# Altium integrated library Microchip SST Flash.IntLib: 282 symbols (part 34 of 37)
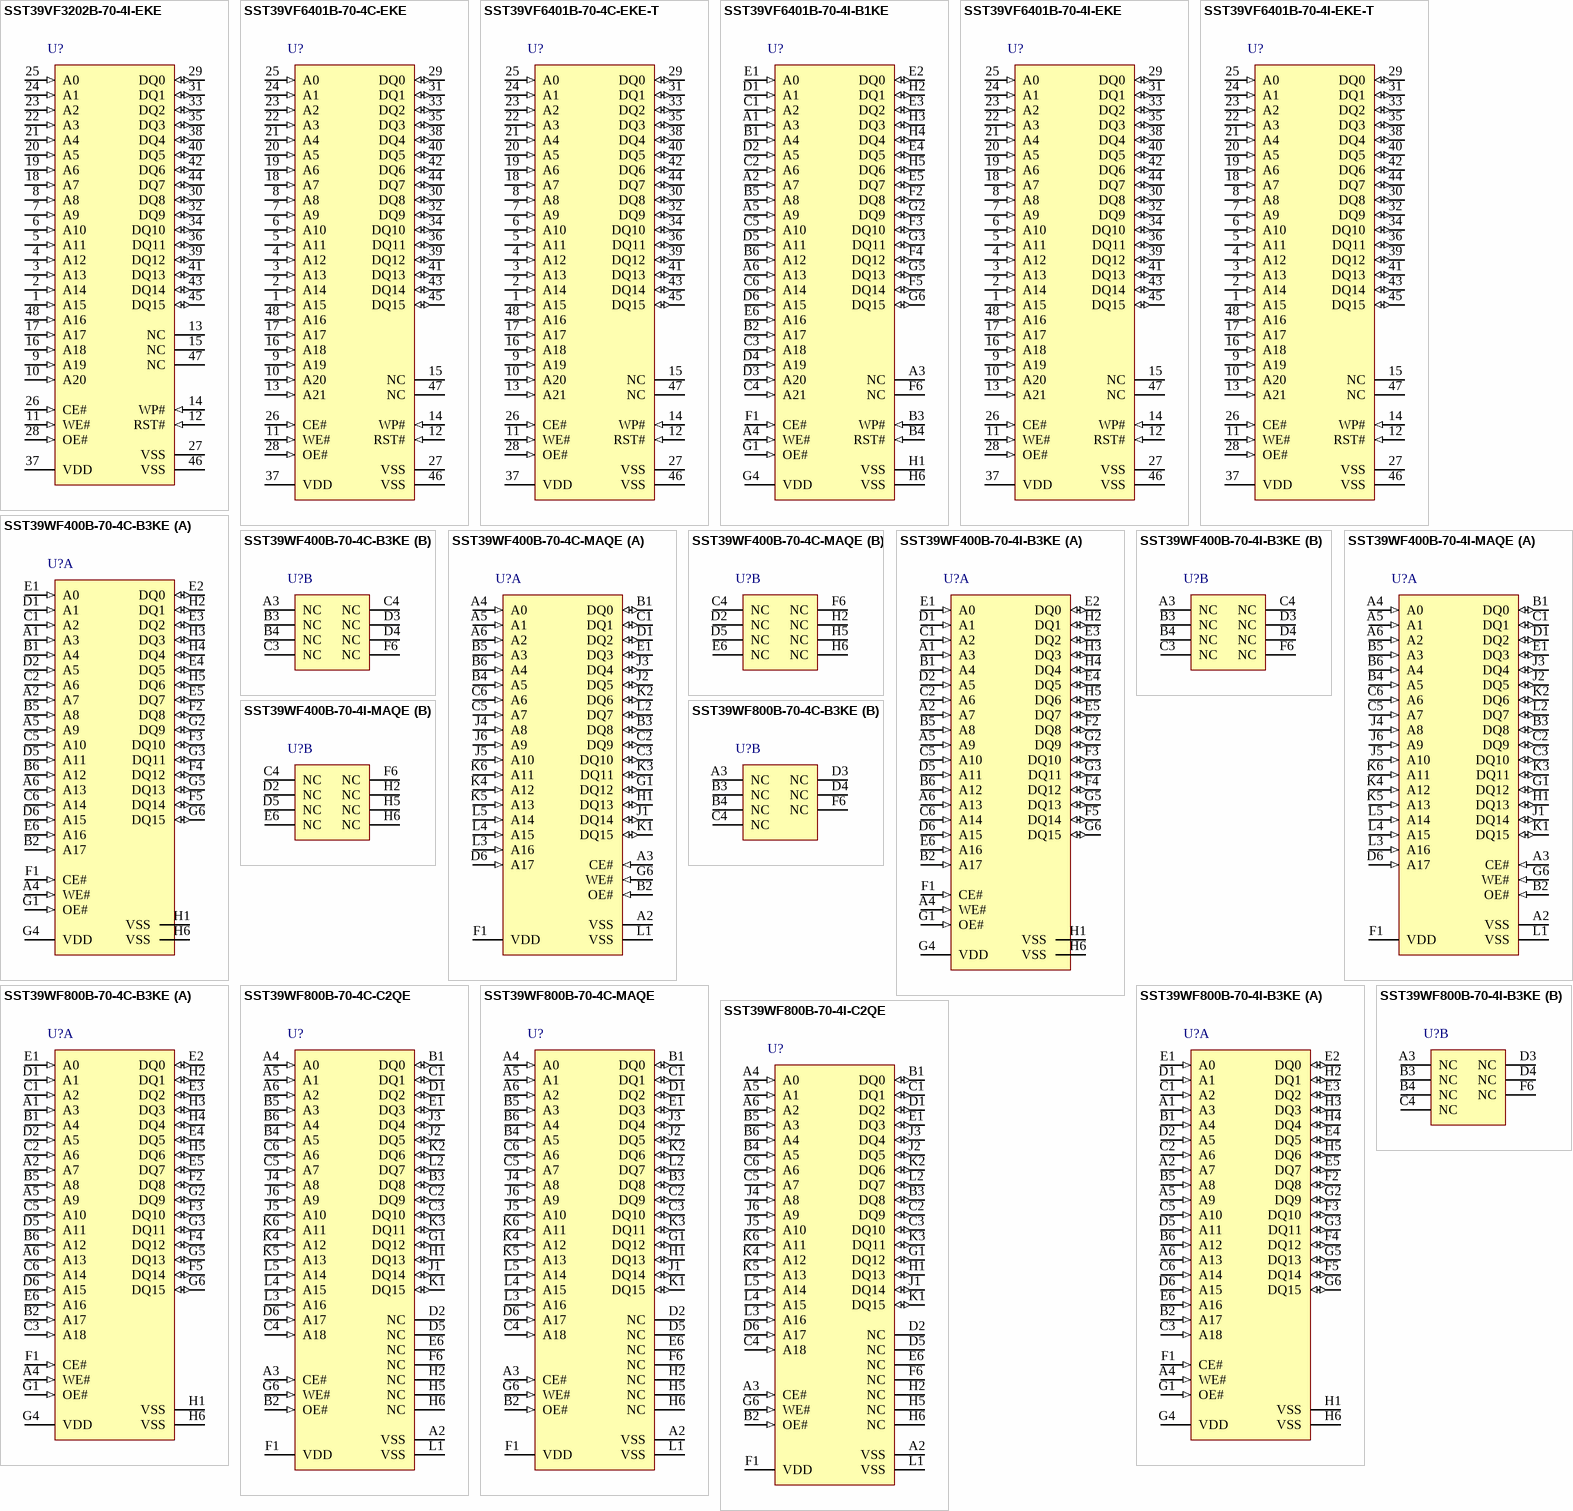
[diagram p47: symbols SST39VF3202B-70-4I-EKE to SST39WF800B-70-4I-C2QE]

## SST39WF800B-70-4C-MAQE
designator U?
8 Mbit Multi-Purpose Flash, 1.65 to 1.95 V, 0 to 70 degC, 48-pin WFBGA (MAQ48), Tray; Manufacturer: Microchip; PartNumber: SST39WF800B-70-4C-MAQE; DatasheetVersion: Rev. A; PackageVersion: Rev. A; PackageReference: WFBGA-MAQ48; PackageDescription: 48-Ball Very Very Thin-profile, Fine-pitch Ball Grid Array, 6 x 4 mm Body, 0.5 mm Pitch; Supplier 1: Digi-Key; Supplier Part Number 1: SST39WF800B-70-4C-MAQE-ND; Supplier 2: Mouser; Supplier Part Number 2: 804-39WF800B7CMAQE; Mounting Technology: Surface Mount; Code_JEDEC: MO-207; ComponentLink1Description: Manufacturer URL; ComponentLink1URL: http://www.microchip.com; ComponentLink2Description: Datasheet; ComponentLink2URL: http://ww1.microchip.com/downloads/en/DeviceDoc/25031A.pdf; ComponentLink3Description: Package Specification; ComponentLink3URL: http://ww1.microchip.com/downloads/en/DeviceDoc/25041A.pdf; ComponentLink4Description: Product URL; ComponentLink4URL: http://www.microchip.com/SST39WF800B
footprint MCHP-WFBGA-MAQ48 (BGA, 48-Balls, Body 6x4mm, Pitch 0.5mm)
pins: A2 VSS (power) "Ground", A3 CE# (in) "To activate the device when CE# is low.", A4 A0 (in) "To provide memory addresses.During Sector-Erase AMS-A11 address lines will select the sector. During Block-Erase AMS-A15 address lines will select the block.", A5 A1 (in) "To provide memory addresses.During Sector-Erase AMS-A11 address lines will select the sector. During Block-Erase AMS-A15 address lines will select the block.", A6 A2 (in) "To provide memory addresses.During Sector-Erase AMS-A11 address lines will select the sector. During Block-Erase AMS-A15 address lines will select the block.", B1 DQ0 (io) "To output data during Read cycles and receive input data during Write cycles. Data is internally latched during a Write cycle. The outputs are in tri-state when OE# or CE# is high.", B2 OE# (in) "To gate the data output buffers.", B3 DQ8 (io) "To output data during Read cycles and receive input data during Write cycles. Data is internally latched during a Write cycle. The outputs are in tri-state when OE# or CE# is high.", B4 A5 (in) "To provide memory addresses.During Sector-Erase AMS-A11 address lines will select the sector. During Block-Erase AMS-A15 address lines will select the block.", B5 A3 (in) "To provide memory addresses.During Sector-Erase AMS-A11 address lines will select the sector. During Block-Erase AMS-A15 address lines will select the block.", B6 A4 (in) "To provide memory addresses.During Sector-Erase AMS-A11 address lines will select the sector. During Block-Erase AMS-A15 address lines will select the block.", C1 DQ1 (io) "To output data during Read cycles and receive input data during Write cycles. Data is internally latched during a Write cycle. The outputs are in tri-state when OE# or CE# is high.", C2 DQ9 (io) "To output data during Read cycles and receive input data during Write cycles. Data is internally latched during a Write cycle. The outputs are in tri-state when OE# or CE# is high.", C3 DQ10 (io) "To output data during Read cycles and receive input data during Write cycles. Data is internally latched during a Write cycle. The outputs are in tri-state when OE# or CE# is high.", C4 A18 (in) "To provide memory addresses.During Sector-Erase AMS-A11 address lines will select the sector. During Block-Erase AMS-A15 address lines will select the block.", C5 A7 (in) "To provide memory addresses.During Sector-Erase AMS-A11 address lines will select the sector. During Block-Erase AMS-A15 address lines will select the block.", C6 A6 (in) "To provide memory addresses.During Sector-Erase AMS-A11 address lines will select the sector. During Block-Erase AMS-A15 address lines will select the block.", D1 DQ2 (io) "To output data during Read cycles and receive input data during Write cycles. Data is internally latched during a Write cycle. The outputs are in tri-state when OE# or CE# is high.", D2 NC "Unconnected pins.", D5 NC "Unconnected pins.", D6 A17 (in) "To provide memory addresses.During Sector-Erase AMS-A11 address lines will select the sector. During Block-Erase AMS-A15 address lines will select the block.", E1 DQ3 (io) "To output data during Read cycles and receive input data during Write cycles. Data is internally latched during a Write cycle. The outputs are in tri-state when OE# or CE# is high.", E6 NC "Unconnected pins.", F1 VDD (power) "To provide power supply voltage: 1.65-1.95 V for SST39WF800B", F6 NC "Unconnected pins.", G1 DQ12 (io) "To output data during Read cycles and receive input data during Write cycles. Data is internally latched during a Write cycle. The outputs are in tri-state when OE# or CE# is high.", G6 WE# (in) "To control the Write operations.", H1 DQ13 (io) "To output data during Read cycles and receive input data during Write cycles. Data is internally latched during a Write cycle. The outputs are in tri-state when OE# or CE# is high.", H2 NC "Unconnected pins.", H5 NC "Unconnected pins.", H6 NC "Unconnected pins.", J1 DQ14 (io) "To output data during Read cycles and receive input data during Write cycles. Data is internally latched during a Write cycle. The outputs are in tri-state when OE# or CE# is high.", J2 DQ5 (io) "To output data during Read cycles and receive input data during Write cycles. Data is internally latched during a Write cycle. The outputs are in tri-state when OE# or CE# is high.", J3 DQ4 (io) "To output data during Read cycles and receive input data during Write cycles. Data is internally latched during a Write cycle. The outputs are in tri-state when OE# or CE# is high.", J4 A8 (in) "To provide memory addresses.During Sector-Erase AMS-A11 address lines will select the sector. During Block-Erase AMS-A15 address lines will select the block.", J5 A10 (in) "To provide memory addresses.During Sector-Erase AMS-A11 address lines will select the sector. During Block-Erase AMS-A15 address lines will select the block.", J6 A9 (in) "To provide memory addresses.During Sector-Erase AMS-A11 address lines will select the sector. During Block-Erase AMS-A15 address lines will select the block.", K1 DQ15 (io) "To output data during Read cycles and receive input data during Write cycles. Data is internally latched during a Write cycle. The outputs are in tri-state when OE# or CE# is high.", K2 DQ6 (io) "To output data during Read cycles and receive input data during Write cycles. Data is internally latched during a Write cycle. The outputs are in tri-state when OE# or CE# is high.", K3 DQ11 (io) "To output data during Read cycles and receive input data during Write cycles. Data is internally latched during a Write cycle. The outputs are in tri-state when OE# or CE# is high.", K4 A12 (in) "To provide memory addresses.During Sector-Erase AMS-A11 address lines will select the sector. During Block-Erase AMS-A15 address lines will select the block.", K5 A13 (in) "To provide memory addresses.During Sector-Erase AMS-A11 address lines will select the sector. During Block-Erase AMS-A15 address lines will select the block.", K6 A11 (in) "To provide memory addresses.During Sector-Erase AMS-A11 address lines will select the sector. During Block-Erase AMS-A15 address lines will select the block.", L1 VSS (power), L2 DQ7 (io) "To output data during Read cycles and receive input data during Write cycles. Data is internally latched during a Write cycle. The outputs are in tri-state when OE# or CE# is high.", L3 A16 (in) "To provide memory addresses.During Sector-Erase AMS-A11 address lines will select the sector. During Block-Erase AMS-A15 address lines will select the block.", L4 A15 (in) "To provide memory addresses.During Sector-Erase AMS-A11 address lines will select the sector. During Block-Erase AMS-A15 address lines will select the block.", L5 A14 (in) "To provide memory addresses.During Sector-Erase AMS-A11 address lines will select the sector. During Block-Erase AMS-A15 address lines will select the block."

## SST39WF800B-70-4I-B3KE
designator U?
8 Mbit Multi-Purpose Flash, 1.65 to 1.95 V, -40 to 85 degC, 48-pin TFBGA (B3K48), Tray; Manufacturer: Microchip; PartNumber: SST39WF800B-70-4I-B3KE; DatasheetVersion: Rev. A; PackageVersion: Rev. A; PackageReference: TFBGA-B3K48; PackageDescription: 48-Ball Thin-Profile, Fine-Pitch Ball Grid Array, 8 x 6 mm Body, 0.8 mm Pitch; Supplier 1: Digi-Key; Supplier Part Number 1: SST39WF800B-70-4I-B3KE-ND; Supplier 2: Mouser; Supplier Part Number 2: 804-39WF800B7IB3KE; Mounting Technology: Surface Mount; Code_JEDEC: MO-210; ComponentLink1Description: Manufacturer URL; ComponentLink1URL: http://www.microchip.com; ComponentLink2Description: Datasheet; ComponentLink2URL: http://ww1.microchip.com/downloads/en/DeviceDoc/25031A.pdf; ComponentLink3Description: Package Specification; ComponentLink3URL: http://www.microchip.com/stellent/groups/techpub_sg/documents/packagingspec/en012702.pdf; ComponentLink4Description: Product URL; ComponentLink4URL: http://www.microchip.com/SST39WF800B
footprint MCHP-TFBGA-B3K48 (BGA, 48-Balls, Body 8x6mm, Pitch 0.8mm)
part A pins: A1 A3 (in) "To provide memory addresses. During Sector-Erase AMS-A11 address lines will select the sector. During Block-Erase AMS-A15 address lines will select the block.", A2 A7 (in) "To provide memory addresses. During Sector-Erase AMS-A11 address lines will select the sector. During Block-Erase AMS-A15 address lines will select the block.", A4 WE# (in) "To control the Write operations.", A5 A9 (in) "To provide memory addresses. During Sector-Erase AMS-A11 address lines will select the sector. During Block-Erase AMS-A15 address lines will select the block.", A6 A13 (in) "To provide memory addresses. During Sector-Erase AMS-A11 address lines will select the sector. During Block-Erase AMS-A15 address lines will select the block.", B1 A4 (in) "To provide memory addresses. During Sector-Erase AMS-A11 address lines will select the sector. During Block-Erase AMS-A15 address lines will select the block.", B2 A17 (in) "To provide memory addresses. During Sector-Erase AMS-A11 address lines will select the sector. During Block-Erase AMS-A15 address lines will select the block.", B5 A8 (in) "To provide memory addresses. During Sector-Erase AMS-A11 address lines will select the sector. During Block-Erase AMS-A15 address lines will select the block.", B6 A12 (in) "To provide memory addresses. During Sector-Erase AMS-A11 address lines will select the sector. During Block-Erase AMS-A15 address lines will select the block.", C1 A2 (in) "To provide memory addresses. During Sector-Erase AMS-A11 address lines will select the sector. During Block-Erase AMS-A15 address lines will select the block.", C2 A6 (in) "To provide memory addresses. During Sector-Erase AMS-A11 address lines will select the sector. During Block-Erase AMS-A15 address lines will select the block.", C3 A18 (in) "To provide memory addresses. During Sector-Erase AMS-A11 address lines will select the sector. During Block-Erase AMS-A15 address lines will select the block.", C5 A10 (in) "To provide memory addresses. During Sector-Erase AMS-A11 address lines will select the sector. During Block-Erase AMS-A15 address lines will select the block.", C6 A14 (in) "To provide memory addresses. During Sector-Erase AMS-A11 address lines will select the sector. During Block-Erase AMS-A15 address lines will select the block.", D1 A1 (in) "To provide memory addresses. During Sector-Erase AMS-A11 address lines will select the sector. During Block-Erase AMS-A15 address lines will select the block.", D2 A5 (in) "To provide memory addresses. During Sector-Erase AMS-A11 address lines will select the sector. During Block-Erase AMS-A15 address lines will select the block.", D5 A11 (in) "To provide memory addresses. During Sector-Erase AMS-A11 address lines will select the sector. During Block-Erase AMS-A15 address lines will select the block.", D6 A15 (in) "To provide memory addresses. During Sector-Erase AMS-A11 address lines will select the sector. During Block-Erase AMS-A15 address lines will select the block.", E1 A0 (in) "To provide memory addresses. During Sector-Erase AMS-A11 address lines will select the sector. During Block-Erase AMS-A15 address lines will select the block.", E2 DQ0 (io) "To output data during Read cycles and receive input data during Write cycles. Data is internally latched during a Write cycle. The outputs are in tri-state when OE# or CE# is high.", E3 DQ2 (io) "To output data during Read cycles and receive input data during Write cycles. Data is internally latched during a Write cycle. The outputs are in tri-state when OE# or CE# is high.", E4 DQ5 (io) "To output data during Read cycles and receive input data during Write cycles. Data is internally latched during a Write cycle. The outputs are in tri-state when OE# or CE# is high.", E5 DQ7 (io) "To output data during Read cycles and receive input data during Write cycles. Data is internally latched during a Write cycle. The outputs are in tri-state when OE# or CE# is high.", E6 A16 (in) "To provide memory addresses. During Sector-Erase AMS-A11 address lines will select the sector. During Block-Erase AMS-A15 address lines will select the block.", F1 CE# (in) "To activate the device when CE# is low.", F2 DQ8 (io) "To output data during Read cycles and receive input data during Write cycles. Data is internally latched during a Write cycle. The outputs are in tri-state when OE# or CE# is high.", F3 DQ10 (io) "To output data during Read cycles and receive input data during Write cycles. Data is internally latched during a Write cycle. The outputs are in tri-state when OE# or CE# is high.", F4 DQ12 (io) "To output data during Read cycles and receive input data during Write cycles. Data is internally latched during a Write cycle. The outputs are in tri-state when OE# or CE# is high.", F5 DQ14 (io) "To output data during Read cycles and receive input data during Write cycles. Data is internally latched during a Write cycle. The outputs are in tri-state when OE# or CE# is high.", G1 OE# (in) "To gate the data output buffers.", G2 DQ9 (io) "To output data during Read cycles and receive input data during Write cycles. Data is internally latched during a Write cycle. The outputs are in tri-state when OE# or CE# is high.", G3 DQ11 (io) "To output data during Read cycles and receive input data during Write cycles. Data is internally latched during a Write cycle. The outputs are in tri-state when OE# or CE# is high.", G4 VDD (power) "To provide power supply voltage: 2.7-3.6V for SST39VF200A/400A/800A,3.0-3.6V for SST39LF200A/400A/800A,1.65-1.95 V for SST39WF800B", G5 DQ13 (io) "To output data during Read cycles and receive input data during Write cycles. Data is internally latched during a Write cycle. The outputs are in tri-state when OE# or CE# is high.", G6 DQ15 (io) "To output data during Read cycles and receive input data during Write cycles. Data is internally latched during a Write cycle. The outputs are in tri-state when OE# or CE# is high.", H1 VSS (power) "Ground", H2 DQ1 (io) "To output data during Read cycles and receive input data during Write cycles. Data is internally latched during a Write cycle. The outputs are in tri-state when OE# or CE# is high.", H3 DQ3 (io) "To output data during Read cycles and receive input data during Write cycles. Data is internally latched during a Write cycle. The outputs are in tri-state when OE# or CE# is high.", H4 DQ4 (io) "To output data during Read cycles and receive input data during Write cycles. Data is internally latched during a Write cycle. The outputs are in tri-state when OE# or CE# is high.", H5 DQ6 (io) "To output data during Read cycles and receive input data during Write cycles. Data is internally latched during a Write cycle. The outputs are in tri-state when OE# or CE# is high.", H6 VSS (power) "Ground"
part B pins: A3 NC "Unconnected pins.", B3 NC "Unconnected pins.", B4 NC "Unconnected pins.", C4 NC "Unconnected pins.", D3 NC "Unconnected pins.", D4 NC "Unconnected pins.", F6 NC "Unconnected pins."

## SST39WF800B-70-4I-C2QE
designator U?
8 Mbit Multi-Purpose Flash, 1.65 to 1.95 V, -40 to 85 degC, 48-pin XFLGA (C2Q48), Tray; Manufacturer: Microchip; PartNumber: SST39WF800B-70-4I-C2QE; DatasheetVersion: Rev. A; PackageVersion: Rev. A; PackageReference: XFLGA-C2Q48; PackageDescription: 48-Ball Extremely Thin-Profile, Fine-Pitch Land Grid Array, 6 x 5 mm Body, 0.5 mm Pitch; Supplier 1: Digi-Key; Supplier Part Number 1: SST39WF800B-70-4I-C2QE-ND; Supplier 2: Newark; Supplier Part Number 2: 92R4944; Supplier 3: Mouser; Supplier Part Number 3: 579-39WF800B7IC2QE; Mounting Technology: Surface Mount; Code_JEDEC: MO-222; ComponentLink1Description: Manufacturer URL; ComponentLink1URL: http://www.microchip.com; ComponentLink2Description: Datasheet; ComponentLink2URL: http://ww1.microchip.com/downloads/en/DeviceDoc/25031A.pdf; ComponentLink3Description: Package Specification; ComponentLink3URL: http://ww1.microchip.com/downloads/en/DeviceDoc/25031A.pdf; ComponentLink4Description: Product URL; ComponentLink4URL: http://www.microchip.com/SST39WF800B
footprint MCHP-XFLGA-C2Q48 (BGA, 48-Balls, Body 6x5mm, Pitch 0.5mm)
pins: A2 VSS (power) "Ground", A3 CE# (in) "To activate the device when CE# is low.", A4 A0 (in) "To provide memory addresses.During Sector-Erase AMS-A11 address lines will select the sector. During Block-Erase AMS-A15 address lines will select the block.", A5 A1 (in) "To provide memory addresses.During Sector-Erase AMS-A11 address lines will select the sector. During Block-Erase AMS-A15 address lines will select the block.", A6 A2 (in) "To provide memory addresses.During Sector-Erase AMS-A11 address lines will select the sector. During Block-Erase AMS-A15 address lines will select the block.", B1 DQ0 (io) "To output data during Read cycles and receive input data during Write cycles. Data is internally latched during a Write cycle. The outputs are in tri-state when OE# or CE# is high.", B2 OE# (in) "To gate the data output buffers.", B3 DQ8 (io) "To output data during Read cycles and receive input data during Write cycles. Data is internally latched during a Write cycle. The outputs are in tri-state when OE# or CE# is high.", B4 A5 (in) "To provide memory addresses.During Sector-Erase AMS-A11 address lines will select the sector. During Block-Erase AMS-A15 address lines will select the block.", B5 A3 (in) "To provide memory addresses.During Sector-Erase AMS-A11 address lines will select the sector. During Block-Erase AMS-A15 address lines will select the block.", B6 A4 (in) "To provide memory addresses.During Sector-Erase AMS-A11 address lines will select the sector. During Block-Erase AMS-A15 address lines will select the block.", C1 DQ1 (io) "To output data during Read cycles and receive input data during Write cycles. Data is internally latched during a Write cycle. The outputs are in tri-state when OE# or CE# is high.", C2 DQ9 (io) "To output data during Read cycles and receive input data during Write cycles. Data is internally latched during a Write cycle. The outputs are in tri-state when OE# or CE# is high.", C3 DQ10 (io) "To output data during Read cycles and receive input data during Write cycles. Data is internally latched during a Write cycle. The outputs are in tri-state when OE# or CE# is high.", C4 A18 (in) "To provide memory addresses.During Sector-Erase AMS-A11 address lines will select the sector. During Block-Erase AMS-A15 address lines will select the block.", C5 A7 (in) "To provide memory addresses.During Sector-Erase AMS-A11 address lines will select the sector. During Block-Erase AMS-A15 address lines will select the block.", C6 A6 (in) "To provide memory addresses.During Sector-Erase AMS-A11 address lines will select the sector. During Block-Erase AMS-A15 address lines will select the block.", D1 DQ2 (io) "To output data during Read cycles and receive input data during Write cycles. Data is internally latched during a Write cycle. The outputs are in tri-state when OE# or CE# is high.", D2 NC "Unconnected pins.", D5 NC "Unconnected pins.", D6 A17 (in) "To provide memory addresses.During Sector-Erase AMS-A11 address lines will select the sector. During Block-Erase AMS-A15 address lines will select the block.", E1 DQ3 (io) "To output data during Read cycles and receive input data during Write cycles. Data is internally latched during a Write cycle. The outputs are in tri-state when OE# or CE# is high.", E6 NC "Unconnected pins.", F1 VDD (power) "To provide power supply voltage: 1.65-1.95 V for SST39WF800B", F6 NC "Unconnected pins.", G1 DQ12 (io) "To output data during Read cycles and receive input data during Write cycles. Data is internally latched during a Write cycle. The outputs are in tri-state when OE# or CE# is high.", G6 WE# (in) "To control the Write operations.", H1 DQ13 (io) "To output data during Read cycles and receive input data during Write cycles. Data is internally latched during a Write cycle. The outputs are in tri-state when OE# or CE# is high.", H2 NC "Unconnected pins.", H5 NC "Unconnected pins.", H6 NC "Unconnected pins.", J1 DQ14 (io) "To output data during Read cycles and receive input data during Write cycles. Data is internally latched during a Write cycle. The outputs are in tri-state when OE# or CE# is high.", J2 DQ5 (io) "To output data during Read cycles and receive input data during Write cycles. Data is internally latched during a Write cycle. The outputs are in tri-state when OE# or CE# is high.", J3 DQ4 (io) "To output data during Read cycles and receive input data during Write cycles. Data is internally latched during a Write cycle. The outputs are in tri-state when OE# or CE# is high.", J4 A8 (in) "To provide memory addresses.During Sector-Erase AMS-A11 address lines will select the sector. During Block-Erase AMS-A15 address lines will select the block.", J5 A10 (in) "To provide memory addresses.During Sector-Erase AMS-A11 address lines will select the sector. During Block-Erase AMS-A15 address lines will select the block.", J6 A9 (in) "To provide memory addresses.During Sector-Erase AMS-A11 address lines will select the sector. During Block-Erase AMS-A15 address lines will select the block.", K1 DQ15 (io) "To output data during Read cycles and receive input data during Write cycles. Data is internally latched during a Write cycle. The outputs are in tri-state when OE# or CE# is high.", K2 DQ6 (io) "To output data during Read cycles and receive input data during Write cycles. Data is internally latched during a Write cycle. The outputs are in tri-state when OE# or CE# is high.", K3 DQ11 (io) "To output data during Read cycles and receive input data during Write cycles. Data is internally latched during a Write cycle. The outputs are in tri-state when OE# or CE# is high.", K4 A12 (in) "To provide memory addresses.During Sector-Erase AMS-A11 address lines will select the sector. During Block-Erase AMS-A15 address lines will select the block.", K5 A13 (in) "To provide memory addresses.During Sector-Erase AMS-A11 address lines will select the sector. During Block-Erase AMS-A15 address lines will select the block.", K6 A11 (in) "To provide memory addresses.During Sector-Erase AMS-A11 address lines will select the sector. During Block-Erase AMS-A15 address lines will select the block.", L1 VSS (power), L2 DQ7 (io) "To output data during Read cycles and receive input data during Write cycles. Data is internally latched during a Write cycle. The outputs are in tri-state when OE# or CE# is high.", L3 A16 (in) "To provide memory addresses.During Sector-Erase AMS-A11 address lines will select the sector. During Block-Erase AMS-A15 address lines will select the block.", L4 A15 (in) "To provide memory addresses.During Sector-Erase AMS-A11 address lines will select the sector. During Block-Erase AMS-A15 address lines will select the block.", L5 A14 (in) "To provide memory addresses.During Sector-Erase AMS-A11 address lines will select the sector. During Block-Erase AMS-A15 address lines will select the block."

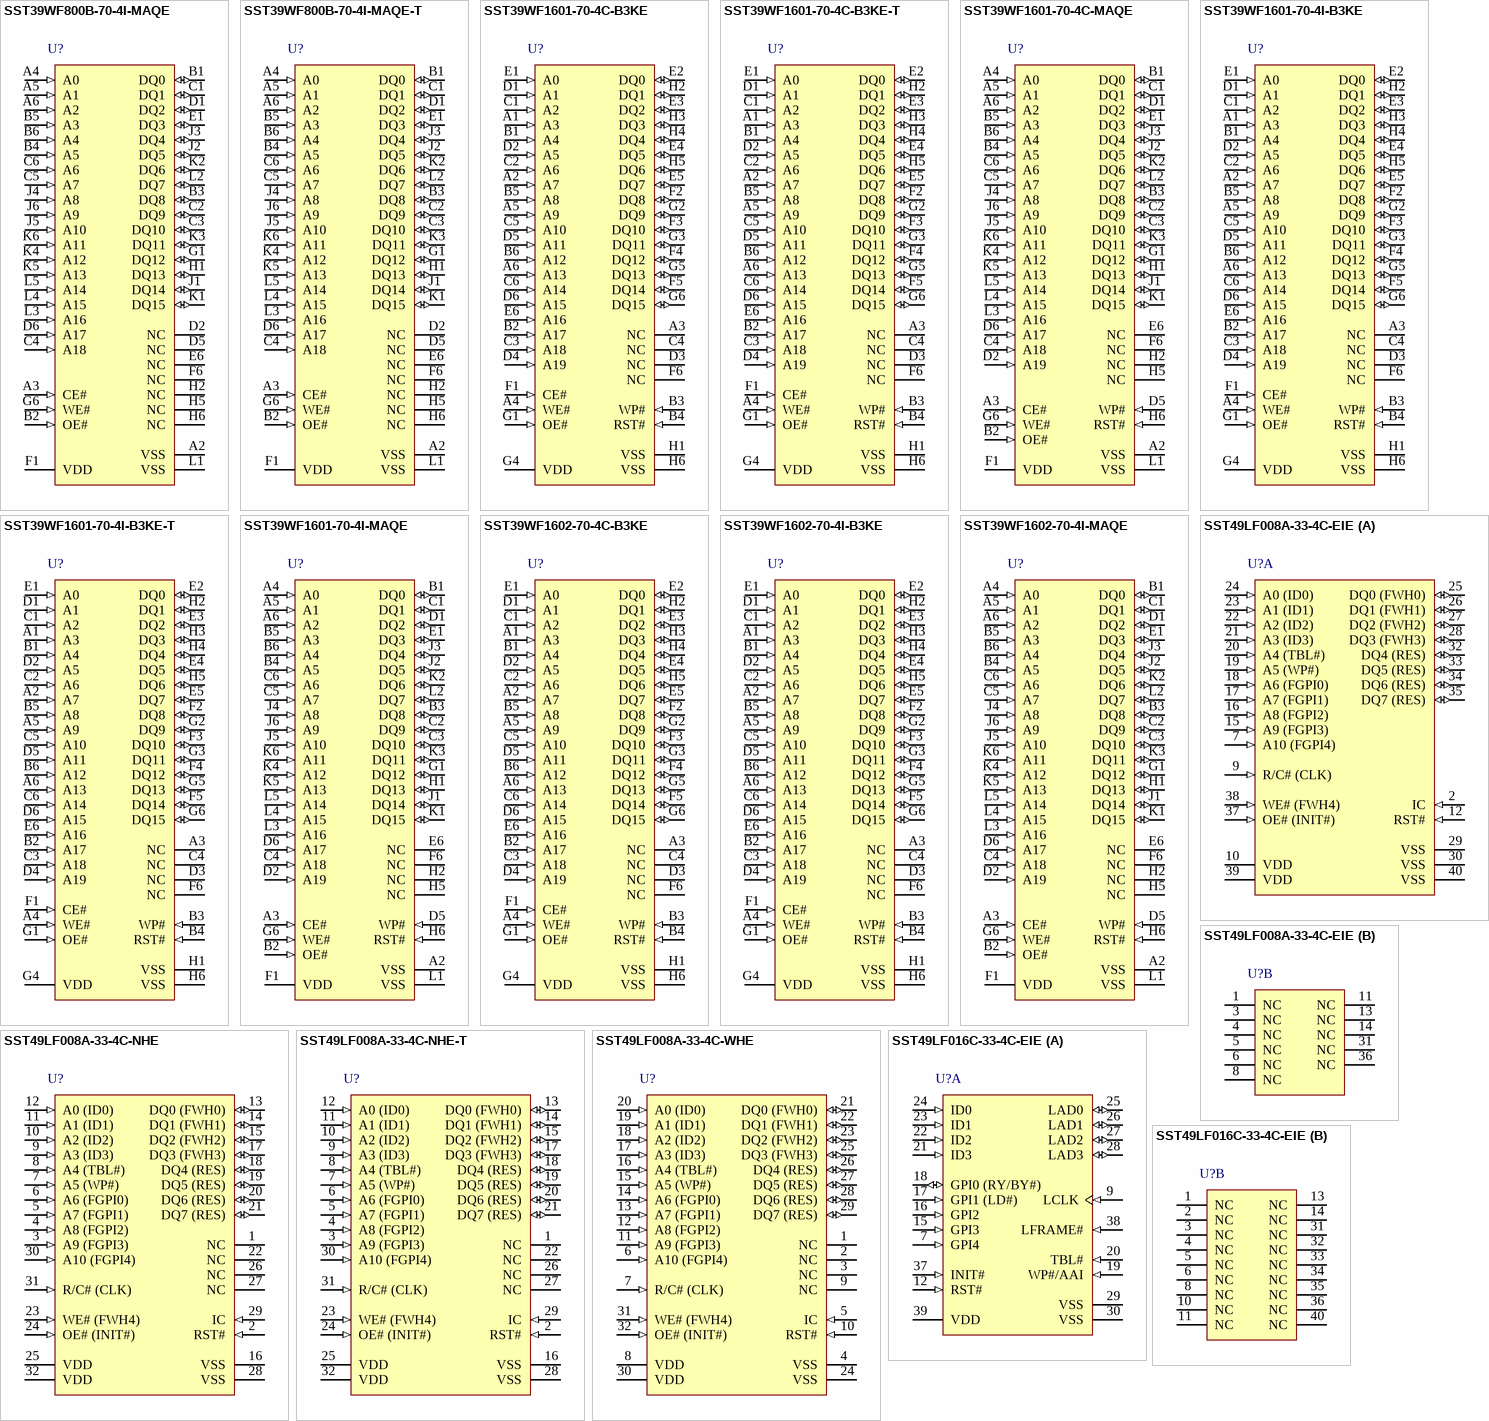
[diagram p13: symbols SST39WF800B-70-4I-MAQE to SST49LF016C-33-4C-EIE]

## SST39WF800B-70-4I-MAQE
designator U?
8 Mbit Multi-Purpose Flash, 1.65 to 1.95 V, -40 to 85 degC, 48-pin WFBGA (MAQ48), Tray; Manufacturer: Microchip; PartNumber: SST39WF800B-70-4I-MAQE; DatasheetVersion: Rev. A; PackageVersion: Rev. A; PackageReference: WFBGA-MAQ48; PackageDescription: 48-Ball Very Very Thin-profile, Fine-pitch Ball Grid Array, 6 x 4 mm Body, 0.5 mm Pitch; Supplier 1: Digi-Key; Supplier Part Number 1: SST39WF800B-70-4I-MAQE-ND; Supplier 2: Mouser; Supplier Part Number 2: 579-39WF800B7IMAQE; Mounting Technology: Surface Mount; Code_JEDEC: MO-207; ComponentLink1Description: Manufacturer URL; ComponentLink1URL: http://www.microchip.com; ComponentLink2Description: Datasheet; ComponentLink2URL: http://ww1.microchip.com/downloads/en/DeviceDoc/25031A.pdf; ComponentLink3Description: Package Specification; ComponentLink3URL: http://ww1.microchip.com/downloads/en/DeviceDoc/25041A.pdf; ComponentLink4Description: Product URL; ComponentLink4URL: http://www.microchip.com/SST39WF800B
footprint MCHP-WFBGA-MAQ48 (BGA, 48-Balls, Body 6x4mm, Pitch 0.5mm)
pins: A2 VSS (power) "Ground", A3 CE# (in) "To activate the device when CE# is low.", A4 A0 (in) "To provide memory addresses.During Sector-Erase AMS-A11 address lines will select the sector. During Block-Erase AMS-A15 address lines will select the block.", A5 A1 (in) "To provide memory addresses.During Sector-Erase AMS-A11 address lines will select the sector. During Block-Erase AMS-A15 address lines will select the block.", A6 A2 (in) "To provide memory addresses.During Sector-Erase AMS-A11 address lines will select the sector. During Block-Erase AMS-A15 address lines will select the block.", B1 DQ0 (io) "To output data during Read cycles and receive input data during Write cycles. Data is internally latched during a Write cycle. The outputs are in tri-state when OE# or CE# is high.", B2 OE# (in) "To gate the data output buffers.", B3 DQ8 (io) "To output data during Read cycles and receive input data during Write cycles. Data is internally latched during a Write cycle. The outputs are in tri-state when OE# or CE# is high.", B4 A5 (in) "To provide memory addresses.During Sector-Erase AMS-A11 address lines will select the sector. During Block-Erase AMS-A15 address lines will select the block.", B5 A3 (in) "To provide memory addresses.During Sector-Erase AMS-A11 address lines will select the sector. During Block-Erase AMS-A15 address lines will select the block.", B6 A4 (in) "To provide memory addresses.During Sector-Erase AMS-A11 address lines will select the sector. During Block-Erase AMS-A15 address lines will select the block.", C1 DQ1 (io) "To output data during Read cycles and receive input data during Write cycles. Data is internally latched during a Write cycle. The outputs are in tri-state when OE# or CE# is high.", C2 DQ9 (io) "To output data during Read cycles and receive input data during Write cycles. Data is internally latched during a Write cycle. The outputs are in tri-state when OE# or CE# is high.", C3 DQ10 (io) "To output data during Read cycles and receive input data during Write cycles. Data is internally latched during a Write cycle. The outputs are in tri-state when OE# or CE# is high.", C4 A18 (in) "To provide memory addresses.During Sector-Erase AMS-A11 address lines will select the sector. During Block-Erase AMS-A15 address lines will select the block.", C5 A7 (in) "To provide memory addresses.During Sector-Erase AMS-A11 address lines will select the sector. During Block-Erase AMS-A15 address lines will select the block.", C6 A6 (in) "To provide memory addresses.During Sector-Erase AMS-A11 address lines will select the sector. During Block-Erase AMS-A15 address lines will select the block.", D1 DQ2 (io) "To output data during Read cycles and receive input data during Write cycles. Data is internally latched during a Write cycle. The outputs are in tri-state when OE# or CE# is high.", D2 NC "Unconnected pins.", D5 NC "Unconnected pins.", D6 A17 (in) "To provide memory addresses.During Sector-Erase AMS-A11 address lines will select the sector. During Block-Erase AMS-A15 address lines will select the block.", E1 DQ3 (io) "To output data during Read cycles and receive input data during Write cycles. Data is internally latched during a Write cycle. The outputs are in tri-state when OE# or CE# is high.", E6 NC "Unconnected pins.", F1 VDD (power) "To provide power supply voltage: 1.65-1.95 V for SST39WF800B", F6 NC "Unconnected pins.", G1 DQ12 (io) "To output data during Read cycles and receive input data during Write cycles. Data is internally latched during a Write cycle. The outputs are in tri-state when OE# or CE# is high.", G6 WE# (in) "To control the Write operations.", H1 DQ13 (io) "To output data during Read cycles and receive input data during Write cycles. Data is internally latched during a Write cycle. The outputs are in tri-state when OE# or CE# is high.", H2 NC "Unconnected pins.", H5 NC "Unconnected pins.", H6 NC "Unconnected pins.", J1 DQ14 (io) "To output data during Read cycles and receive input data during Write cycles. Data is internally latched during a Write cycle. The outputs are in tri-state when OE# or CE# is high.", J2 DQ5 (io) "To output data during Read cycles and receive input data during Write cycles. Data is internally latched during a Write cycle. The outputs are in tri-state when OE# or CE# is high.", J3 DQ4 (io) "To output data during Read cycles and receive input data during Write cycles. Data is internally latched during a Write cycle. The outputs are in tri-state when OE# or CE# is high.", J4 A8 (in) "To provide memory addresses.During Sector-Erase AMS-A11 address lines will select the sector. During Block-Erase AMS-A15 address lines will select the block.", J5 A10 (in) "To provide memory addresses.During Sector-Erase AMS-A11 address lines will select the sector. During Block-Erase AMS-A15 address lines will select the block.", J6 A9 (in) "To provide memory addresses.During Sector-Erase AMS-A11 address lines will select the sector. During Block-Erase AMS-A15 address lines will select the block.", K1 DQ15 (io) "To output data during Read cycles and receive input data during Write cycles. Data is internally latched during a Write cycle. The outputs are in tri-state when OE# or CE# is high.", K2 DQ6 (io) "To output data during Read cycles and receive input data during Write cycles. Data is internally latched during a Write cycle. The outputs are in tri-state when OE# or CE# is high.", K3 DQ11 (io) "To output data during Read cycles and receive input data during Write cycles. Data is internally latched during a Write cycle. The outputs are in tri-state when OE# or CE# is high.", K4 A12 (in) "To provide memory addresses.During Sector-Erase AMS-A11 address lines will select the sector. During Block-Erase AMS-A15 address lines will select the block.", K5 A13 (in) "To provide memory addresses.During Sector-Erase AMS-A11 address lines will select the sector. During Block-Erase AMS-A15 address lines will select the block.", K6 A11 (in) "To provide memory addresses.During Sector-Erase AMS-A11 address lines will select the sector. During Block-Erase AMS-A15 address lines will select the block.", L1 VSS (power), L2 DQ7 (io) "To output data during Read cycles and receive input data during Write cycles. Data is internally latched during a Write cycle. The outputs are in tri-state when OE# or CE# is high.", L3 A16 (in) "To provide memory addresses.During Sector-Erase AMS-A11 address lines will select the sector. During Block-Erase AMS-A15 address lines will select the block.", L4 A15 (in) "To provide memory addresses.During Sector-Erase AMS-A11 address lines will select the sector. During Block-Erase AMS-A15 address lines will select the block.", L5 A14 (in) "To provide memory addresses.During Sector-Erase AMS-A11 address lines will select the sector. During Block-Erase AMS-A15 address lines will select the block."

## SST39WF800B-70-4I-MAQE-T
designator U?
8 Mbit Multi-Purpose Flash, 1.65 to 1.95 V, -40 to 85 degC, 48-pin WFBGA (MAQ48), Tape and Reel; Manufacturer: Microchip; PartNumber: SST39WF800B-70-4I-MAQE-T; DatasheetVersion: Rev. A; PackageVersion: Rev. A; PackageReference: WFBGA-MAQ48; PackageDescription: 48-Ball Very Very Thin-profile, Fine-pitch Ball Grid Array, 6 x 4 mm Body, 0.5 mm Pitch; Mounting Technology: Surface Mount; Code_JEDEC: MO-207; ComponentLink1Description: Manufacturer URL; ComponentLink1URL: http://www.microchip.com; ComponentLink2Description: Datasheet; ComponentLink2URL: http://ww1.microchip.com/downloads/en/DeviceDoc/25031A.pdf; ComponentLink3Description: Package Specification; ComponentLink3URL: http://ww1.microchip.com/downloads/en/DeviceDoc/25041A.pdf; ComponentLink4Description: Product URL; ComponentLink4URL: http://www.microchip.com/SST39WF800B
footprint MCHP-WFBGA-MAQ48 (BGA, 48-Balls, Body 6x4mm, Pitch 0.5mm)
pins: A2 VSS (power) "Ground", A3 CE# (in) "To activate the device when CE# is low.", A4 A0 (in) "To provide memory addresses.During Sector-Erase AMS-A11 address lines will select the sector. During Block-Erase AMS-A15 address lines will select the block.", A5 A1 (in) "To provide memory addresses.During Sector-Erase AMS-A11 address lines will select the sector. During Block-Erase AMS-A15 address lines will select the block.", A6 A2 (in) "To provide memory addresses.During Sector-Erase AMS-A11 address lines will select the sector. During Block-Erase AMS-A15 address lines will select the block.", B1 DQ0 (io) "To output data during Read cycles and receive input data during Write cycles. Data is internally latched during a Write cycle. The outputs are in tri-state when OE# or CE# is high.", B2 OE# (in) "To gate the data output buffers.", B3 DQ8 (io) "To output data during Read cycles and receive input data during Write cycles. Data is internally latched during a Write cycle. The outputs are in tri-state when OE# or CE# is high.", B4 A5 (in) "To provide memory addresses.During Sector-Erase AMS-A11 address lines will select the sector. During Block-Erase AMS-A15 address lines will select the block.", B5 A3 (in) "To provide memory addresses.During Sector-Erase AMS-A11 address lines will select the sector. During Block-Erase AMS-A15 address lines will select the block.", B6 A4 (in) "To provide memory addresses.During Sector-Erase AMS-A11 address lines will select the sector. During Block-Erase AMS-A15 address lines will select the block.", C1 DQ1 (io) "To output data during Read cycles and receive input data during Write cycles. Data is internally latched during a Write cycle. The outputs are in tri-state when OE# or CE# is high.", C2 DQ9 (io) "To output data during Read cycles and receive input data during Write cycles. Data is internally latched during a Write cycle. The outputs are in tri-state when OE# or CE# is high.", C3 DQ10 (io) "To output data during Read cycles and receive input data during Write cycles. Data is internally latched during a Write cycle. The outputs are in tri-state when OE# or CE# is high.", C4 A18 (in) "To provide memory addresses.During Sector-Erase AMS-A11 address lines will select the sector. During Block-Erase AMS-A15 address lines will select the block.", C5 A7 (in) "To provide memory addresses.During Sector-Erase AMS-A11 address lines will select the sector. During Block-Erase AMS-A15 address lines will select the block.", C6 A6 (in) "To provide memory addresses.During Sector-Erase AMS-A11 address lines will select the sector. During Block-Erase AMS-A15 address lines will select the block.", D1 DQ2 (io) "To output data during Read cycles and receive input data during Write cycles. Data is internally latched during a Write cycle. The outputs are in tri-state when OE# or CE# is high.", D2 NC "Unconnected pins.", D5 NC "Unconnected pins.", D6 A17 (in) "To provide memory addresses.During Sector-Erase AMS-A11 address lines will select the sector. During Block-Erase AMS-A15 address lines will select the block.", E1 DQ3 (io) "To output data during Read cycles and receive input data during Write cycles. Data is internally latched during a Write cycle. The outputs are in tri-state when OE# or CE# is high.", E6 NC "Unconnected pins.", F1 VDD (power) "To provide power supply voltage: 1.65-1.95 V for SST39WF800B", F6 NC "Unconnected pins.", G1 DQ12 (io) "To output data during Read cycles and receive input data during Write cycles. Data is internally latched during a Write cycle. The outputs are in tri-state when OE# or CE# is high.", G6 WE# (in) "To control the Write operations.", H1 DQ13 (io) "To output data during Read cycles and receive input data during Write cycles. Data is internally latched during a Write cycle. The outputs are in tri-state when OE# or CE# is high.", H2 NC "Unconnected pins.", H5 NC "Unconnected pins.", H6 NC "Unconnected pins.", J1 DQ14 (io) "To output data during Read cycles and receive input data during Write cycles. Data is internally latched during a Write cycle. The outputs are in tri-state when OE# or CE# is high.", J2 DQ5 (io) "To output data during Read cycles and receive input data during Write cycles. Data is internally latched during a Write cycle. The outputs are in tri-state when OE# or CE# is high.", J3 DQ4 (io) "To output data during Read cycles and receive input data during Write cycles. Data is internally latched during a Write cycle. The outputs are in tri-state when OE# or CE# is high.", J4 A8 (in) "To provide memory addresses.During Sector-Erase AMS-A11 address lines will select the sector. During Block-Erase AMS-A15 address lines will select the block.", J5 A10 (in) "To provide memory addresses.During Sector-Erase AMS-A11 address lines will select the sector. During Block-Erase AMS-A15 address lines will select the block.", J6 A9 (in) "To provide memory addresses.During Sector-Erase AMS-A11 address lines will select the sector. During Block-Erase AMS-A15 address lines will select the block.", K1 DQ15 (io) "To output data during Read cycles and receive input data during Write cycles. Data is internally latched during a Write cycle. The outputs are in tri-state when OE# or CE# is high.", K2 DQ6 (io) "To output data during Read cycles and receive input data during Write cycles. Data is internally latched during a Write cycle. The outputs are in tri-state when OE# or CE# is high.", K3 DQ11 (io) "To output data during Read cycles and receive input data during Write cycles. Data is internally latched during a Write cycle. The outputs are in tri-state when OE# or CE# is high.", K4 A12 (in) "To provide memory addresses.During Sector-Erase AMS-A11 address lines will select the sector. During Block-Erase AMS-A15 address lines will select the block.", K5 A13 (in) "To provide memory addresses.During Sector-Erase AMS-A11 address lines will select the sector. During Block-Erase AMS-A15 address lines will select the block.", K6 A11 (in) "To provide memory addresses.During Sector-Erase AMS-A11 address lines will select the sector. During Block-Erase AMS-A15 address lines will select the block.", L1 VSS (power), L2 DQ7 (io) "To output data during Read cycles and receive input data during Write cycles. Data is internally latched during a Write cycle. The outputs are in tri-state when OE# or CE# is high.", L3 A16 (in) "To provide memory addresses.During Sector-Erase AMS-A11 address lines will select the sector. During Block-Erase AMS-A15 address lines will select the block.", L4 A15 (in) "To provide memory addresses.During Sector-Erase AMS-A11 address lines will select the sector. During Block-Erase AMS-A15 address lines will select the block.", L5 A14 (in) "To provide memory addresses.During Sector-Erase AMS-A11 address lines will select the sector. During Block-Erase AMS-A15 address lines will select the block."

## SST39WF1601-70-4C-B3KE
designator U?
16 Mbit Multi-Purpose Flash Plus, 1.65 to 1.95 V, 0 to 70 degC, 48-pin TFBGA (B3K48), Tray; Manufacturer: Microchip; PartNumber: SST39WF1601-70-4C-B3KE; DatasheetVersion: Rev. A; PackageVersion: Rev. A; PackageReference: TFBGA-B3K48; PackageDescription: 48-Ball Thin-Profile, Fine-Pitch Ball Grid Array, 8 x 6 mm Body, 0.8 mm Pitch; Supplier 1: Digi-Key; Supplier Part Number 1: SST39WF1601-70-4C-B3KE-ND; Supplier 2: Mouser; Supplier Part Number 2: 804-39WF16017CB3KE; Mounting Technology: Surface Mount; Code_JEDEC: MO-210; ComponentLink1Description: Manufacturer URL; ComponentLink1URL: http://www.microchip.com; ComponentLink2Description: Datasheet; ComponentLink2URL: http://ww1.microchip.com/downloads/en/DeviceDoc/25014A.pdf; ComponentLink3Description: Package Specification; ComponentLink3URL: http://www.microchip.com/stellent/groups/techpub_sg/documents/packagingspec/en012702.pdf; ComponentLink4Description: Product URL; ComponentLink4URL: http://www.microchip.com/SST39WF1601
footprint MCHP-TFBGA-B3K48 (BGA, 48-Balls, Body 8x6mm, Pitch 0.8mm)
pins: A1 A3 (in) "To provide memory addresses. During Sector-Erase AMS-A11 address lines will select the sector. During Block-Erase AMS-A15 address lines will select the block.", A2 A7 (in) "To provide memory addresses. During Sector-Erase AMS-A11 address lines will select the sector. During Block-Erase AMS-A15 address lines will select the block.", A3 NC "Unconnected pins.", A4 WE# (in) "To control the Write operations.", A5 A9 (in) "To provide memory addresses. During Sector-Erase AMS-A11 address lines will select the sector. During Block-Erase AMS-A15 address lines will select the block.", A6 A13 (in) "To provide memory addresses. During Sector-Erase AMS-A11 address lines will select the sector. During Block-Erase AMS-A15 address lines will select the block.", B1 A4 (in) "To provide memory addresses. During Sector-Erase AMS-A11 address lines will select the sector. During Block-Erase AMS-A15 address lines will select the block.", B2 A17 (in) "To provide memory addresses. During Sector-Erase AMS-A11 address lines will select the sector. During Block-Erase AMS-A15 address lines will select the block.", B3 WP# (in) "To protect the top/bottom boot block from Erase/Program operation when grounded.", B4 RST# (in) "To reset and return the device to Read mode.", B5 A8 (in) "To provide memory addresses. During Sector-Erase AMS-A11 address lines will select the sector. During Block-Erase AMS-A15 address lines will select the block.", B6 A12 (in) "To provide memory addresses. During Sector-Erase AMS-A11 address lines will select the sector. During Block-Erase AMS-A15 address lines will select the block.", C1 A2 (in) "To provide memory addresses. During Sector-Erase AMS-A11 address lines will select the sector. During Block-Erase AMS-A15 address lines will select the block.", C2 A6 (in) "To provide memory addresses. During Sector-Erase AMS-A11 address lines will select the sector. During Block-Erase AMS-A15 address lines will select the block.", C3 A18 (in) "To provide memory addresses. During Sector-Erase AMS-A11 address lines will select the sector. During Block-Erase AMS-A15 address lines will select the block.", C4 NC "Unconnected pins.", C5 A10 (in) "To provide memory addresses. During Sector-Erase AMS-A11 address lines will select the sector. During Block-Erase AMS-A15 address lines will select the block.", C6 A14 (in) "To provide memory addresses. During Sector-Erase AMS-A11 address lines will select the sector. During Block-Erase AMS-A15 address lines will select the block.", D1 A1 (in) "To provide memory addresses. During Sector-Erase AMS-A11 address lines will select the sector. During Block-Erase AMS-A15 address lines will select the block.", D2 A5 (in) "To provide memory addresses. During Sector-Erase AMS-A11 address lines will select the sector. During Block-Erase AMS-A15 address lines will select the block.", D3 NC "Unconnected pins.", D4 A19 (in) "To provide memory addresses. During Sector-Erase AMS-A11 address lines will select the sector. During Block-Erase AMS-A15 address lines will select the block.", D5 A11 (in) "To provide memory addresses. During Sector-Erase AMS-A11 address lines will select the sector. During Block-Erase AMS-A15 address lines will select the block.", D6 A15 (in) "To provide memory addresses. During Sector-Erase AMS-A11 address lines will select the sector. During Block-Erase AMS-A15 address lines will select the block.", E1 A0 (in) "To provide memory addresses. During Sector-Erase AMS-A11 address lines will select the sector. During Block-Erase AMS-A15 address lines will select the block.", E2 DQ0 (io) "To output data during Read cycles and receive input data during Write cycles.Data is internally latched during a Write cycle. The outputs are in tri-state when OE# or CE# is high.", E3 DQ2 (io) "To output data during Read cycles and receive input data during Write cycles.Data is internally latched during a Write cycle. The outputs are in tri-state when OE# or CE# is high.", E4 DQ5 (io) "To output data during Read cycles and receive input data during Write cycles.Data is internally latched during a Write cycle. The outputs are in tri-state when OE# or CE# is high.", E5 DQ7 (io) "To output data during Read cycles and receive input data during Write cycles.Data is internally latched during a Write cycle. The outputs are in tri-state when OE# or CE# is high.", E6 A16 (in) "To provide memory addresses. During Sector-Erase AMS-A11 address lines will select the sector. During Block-Erase AMS-A15 address lines will select the block.", F1 CE# (in) "To activate the device when CE# is low.", F2 DQ8 (io) "To output data during Read cycles and receive input data during Write cycles.Data is internally latched during a Write cycle. The outputs are in tri-state when OE# or CE# is high.", F3 DQ10 (io) "To output data during Read cycles and receive input data during Write cycles.Data is internally latched during a Write cycle. The outputs are in tri-state when OE# or CE# is high.", F4 DQ12 (io) "To output data during Read cycles and receive input data during Write cycles.Data is internally latched during a Write cycle. The outputs are in tri-state when OE# or CE# is high.", F5 DQ14 (io) "To output data during Read cycles and receive input data during Write cycles.Data is internally latched during a Write cycle. The outputs are in tri-state when OE# or CE# is high.", F6 NC "Unconnected pins.", G1 OE# (in) "To gate the data output buffers.", G2 DQ9 (io) "To output data during Read cycles and receive input data during Write cycles.Data is internally latched during a Write cycle. The outputs are in tri-state when OE# or CE# is high.", G3 DQ11 (io) "To output data during Read cycles and receive input data during Write cycles.Data is internally latched during a Write cycle. The outputs are in tri-state when OE# or CE# is high.", G4 VDD (power) "To provide power supply voltage: SST39WF160X(1.65-1.95V),SST39VF160X(2.7-3.6V)", G5 DQ13 (io) "To output data during Read cycles and receive input data during Write cycles.Data is internally latched during a Write cycle. The outputs are in tri-state when OE# or CE# is high.", G6 DQ15 (io) "To output data during Read cycles and receive input data during Write cycles.Data is internally latched during a Write cycle. The outputs are in tri-state when OE# or CE# is high.", H1 VSS (power), H2 DQ1 (io) "To output data during Read cycles and receive input data during Write cycles.Data is internally latched during a Write cycle. The outputs are in tri-state when OE# or CE# is high.", H3 DQ3 (io) "To output data during Read cycles and receive input data during Write cycles.Data is internally latched during a Write cycle. The outputs are in tri-state when OE# or CE# is high.", H4 DQ4 (io) "To output data during Read cycles and receive input data during Write cycles.Data is internally latched during a Write cycle. The outputs are in tri-state when OE# or CE# is high.", H5 DQ6 (io) "To output data during Read cycles and receive input data during Write cycles.Data is internally latched during a Write cycle. The outputs are in tri-state when OE# or CE# is high.", H6 VSS (power)